# EAGLE library part SOIC8 (library MAÑE)
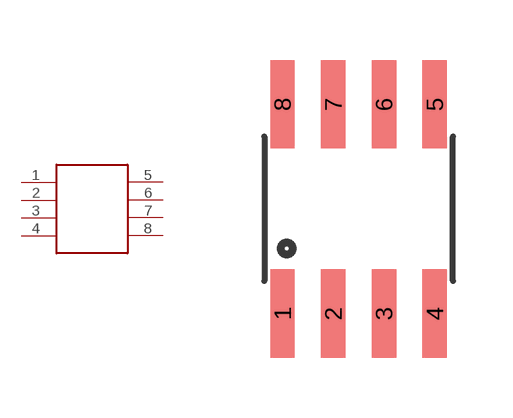
[diagram p0: symbol with the pads of SOIC8; footprint SOIC8]

Designator prefix -

## SOIC8SOIC8  [SOIC8]
1  P$1
2  P$2
3  P$3
4  P$4
5  P$5
6  P$6
7  P$7
8  P$8

## Footprint SOIC8 (pad centres in mm)
smd 0.61 x 2.21: 1 -1.905,-2.616; 2 -0.635,-2.616; 3 0.635,-2.616; 4 1.905,-2.616; 5 1.905,2.616; 6 0.635,2.616; 7 -0.635,2.616; 8 -1.905,2.616